# Altium footprint library 28Pins_Project_V1_PCBLib.PcbLib: 2 footprints
Each footprint in its own frame and in the unit in brackets; x right, y up, seen from the top. Pads: shape width x height; smd on the part's side, far side on the other; paste and mask are expansions set on the pad; w line width, h text height; cw(c..) or ccw(c..) is an arc to the next point about the centre after c.
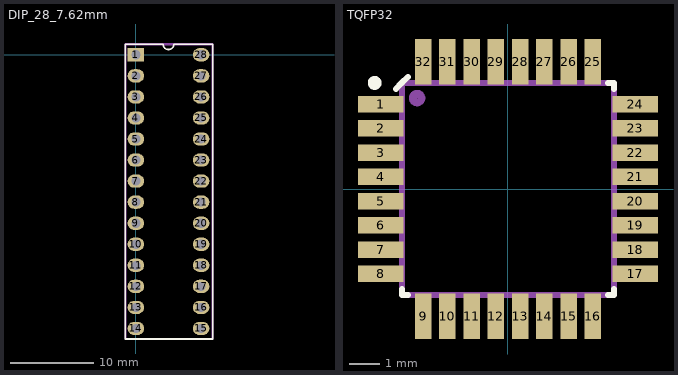
[diagram p0: the footprints below, top view; thin cyan lines are the x and y axes]

## DIP_28_7.62mm [mm]
pads (28):
  rect 2x1.6 hole 1.1: 1(0,0)
  oval 2x1.6 hole 1.1: 2(0,-2.54) 3(0,-5.08) 4(0,-7.62) 5(0,-10.16) 6(0,-12.7) 7(0,-15.24) 8(0,-17.78) 9(0,-20.32) 10(0,-22.86) 11(0,-25.4) 12(0,-27.94) 13(0,-30.48) 14(0,-33.02) 15(7.874,-33.02) 16(7.874,-30.48) 17(7.874,-27.94) 18(7.874,-25.4) 19(7.874,-22.86) 20(7.874,-20.32) 21(7.874,-17.78) 22(7.874,-15.24) 23(7.874,-12.7) 24(7.874,-10.16) 25(7.874,-7.62) 26(7.874,-5.08) 27(7.874,-2.54) 28(7.874,0)
Top Overlay:
  lines w0.2: -1.27,-34.29 9.271,-34.29 9.271,1.27 4.572,1.27 cw(c3.937,1.27) 3.302,1.27 -1.27,1.27 -1.263,-34.29
Mechanical 29:
  circle w0.5: c0,0 r0.25
  lines w0.254: -1.27,-34.29 9.271,-34.29 9.271,1.27 -1.27,1.27 -1.27,-34.29
  text ".Designator" at 5.588,-20.574 h3
3D body "atmega328-pu.stp": height 4.3, standoff -3, extent -0.913,-33.81 8.763,0.79

## TQFP32 [mm]
pads (32):
  rect 1.5x0.55 smd mask+0.06: 1(-4.2,2.8) 2(-4.2,2) 3(-4.2,1.2) 4(-4.2,0.4) 5(-4.2,-0.4) 6(-4.2,-1.2) 7(-4.2,-2) 8(-4.2,-2.8) 17(4.2,-2.8) 18(4.2,-2) 19(4.2,-1.2) 20(4.2,-0.4) 21(4.2,0.4) 22(4.2,1.2) 23(4.2,2) 24(4.2,2.8)
  rect 0.55x1.5 smd mask+0.06: 9(-2.8,-4.2) 10(-2,-4.2) 11(-1.2,-4.2) 12(-0.4,-4.2) 13(0.4,-4.2) 14(1.2,-4.2) 15(2,-4.2) 16(2.8,-4.2) 25(2.8,4.2) 26(2,4.2) 27(1.2,4.2) 28(0.4,4.2) 29(-0.4,4.2) 30(-1.2,4.2) 31(-2,4.2) 32(-2.8,4.2)
Top Overlay:
  circle w0.256: c-4.4,3.5 r0.1
  lines w0.2: -3.7,3.3 -3.5,3.5 -3.3,3.7 ; -3.3,-3.5 -3.5,-3.5 ; 3.3,-3.5 3.5,-3.5 3.5,-3.3 ; 3.3,3.5 3.5,3.5 3.5,3.3 ; -3.5,-3.5 -3.5,-3.3 -3.5,-3.5
Mechanical 29:
  circle w0.256: c-3,3 r0.141
  lines w0.2: -3.5,-3.2 -3.5,3.5 3.3,3.5 ; -3.3,-3.5 3.3,-3.5 ; 3.5,-3.3 3.5,3.3
  text ".Designator" at -1.046,0.054 h1.2
3D body "User Library-tqfp32.STEP": height 1.2, standoff 0, extent -4.599,-4.6 4.599,4.599